# Altium integrated library goldpins.IntLib: 4 symbols
Pins are listed as number, name and electrical type; pins without a type are passive.

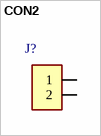
[diagram p0: symbol CON2]

## CON2
designator J?
footprint 2HDR
pins: 1, 2


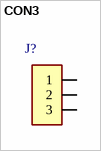
[diagram p1: symbol CON3]

## CON3
designator J?, comment 961106-5500-AR-PR  (value not drawn)
ID: 961106-5500-AR-PR; PDF: http://multimedia.3m.com/mws/mediawebserver?66666UuZjcFSLXTtNxTEmxfXEVuQEcuZgVs6EVs6E666666--; PRICE: 1.93000; BUY_LINK: http://www.digikey.com/product-detail/en/961106-5500-AR-PR/3M9501CT-ND/2071636
footprint 3HDR_SMDRIGHT
pins: 1, 2, 3


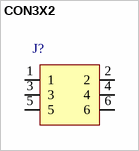
[diagram p2: symbol CON3X2]

## CON3X2
designator J?
footprint 2X3HDR_SMD
pins: 1, 2, 3, 4, 5, 6


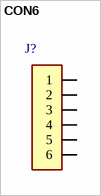
[diagram p3: symbol CON6]

## CON6
designator J?
footprint 6HDR
pins: 1, 2, 3, 4, 5, 6
1 alternate drawing of the same symbol